# Altium footprint library PH.PcbLib: 64 footprints (part 3 of 4)
Each footprint in its own frame and in the unit in brackets; x right, y up, seen from the top. Pads: shape width x height; smd on the part's side, far side on the other; paste and mask are expansions set on the pad; w line width, h text height; cw(c..) or ccw(c..) is an arc to the next point about the centre after c.
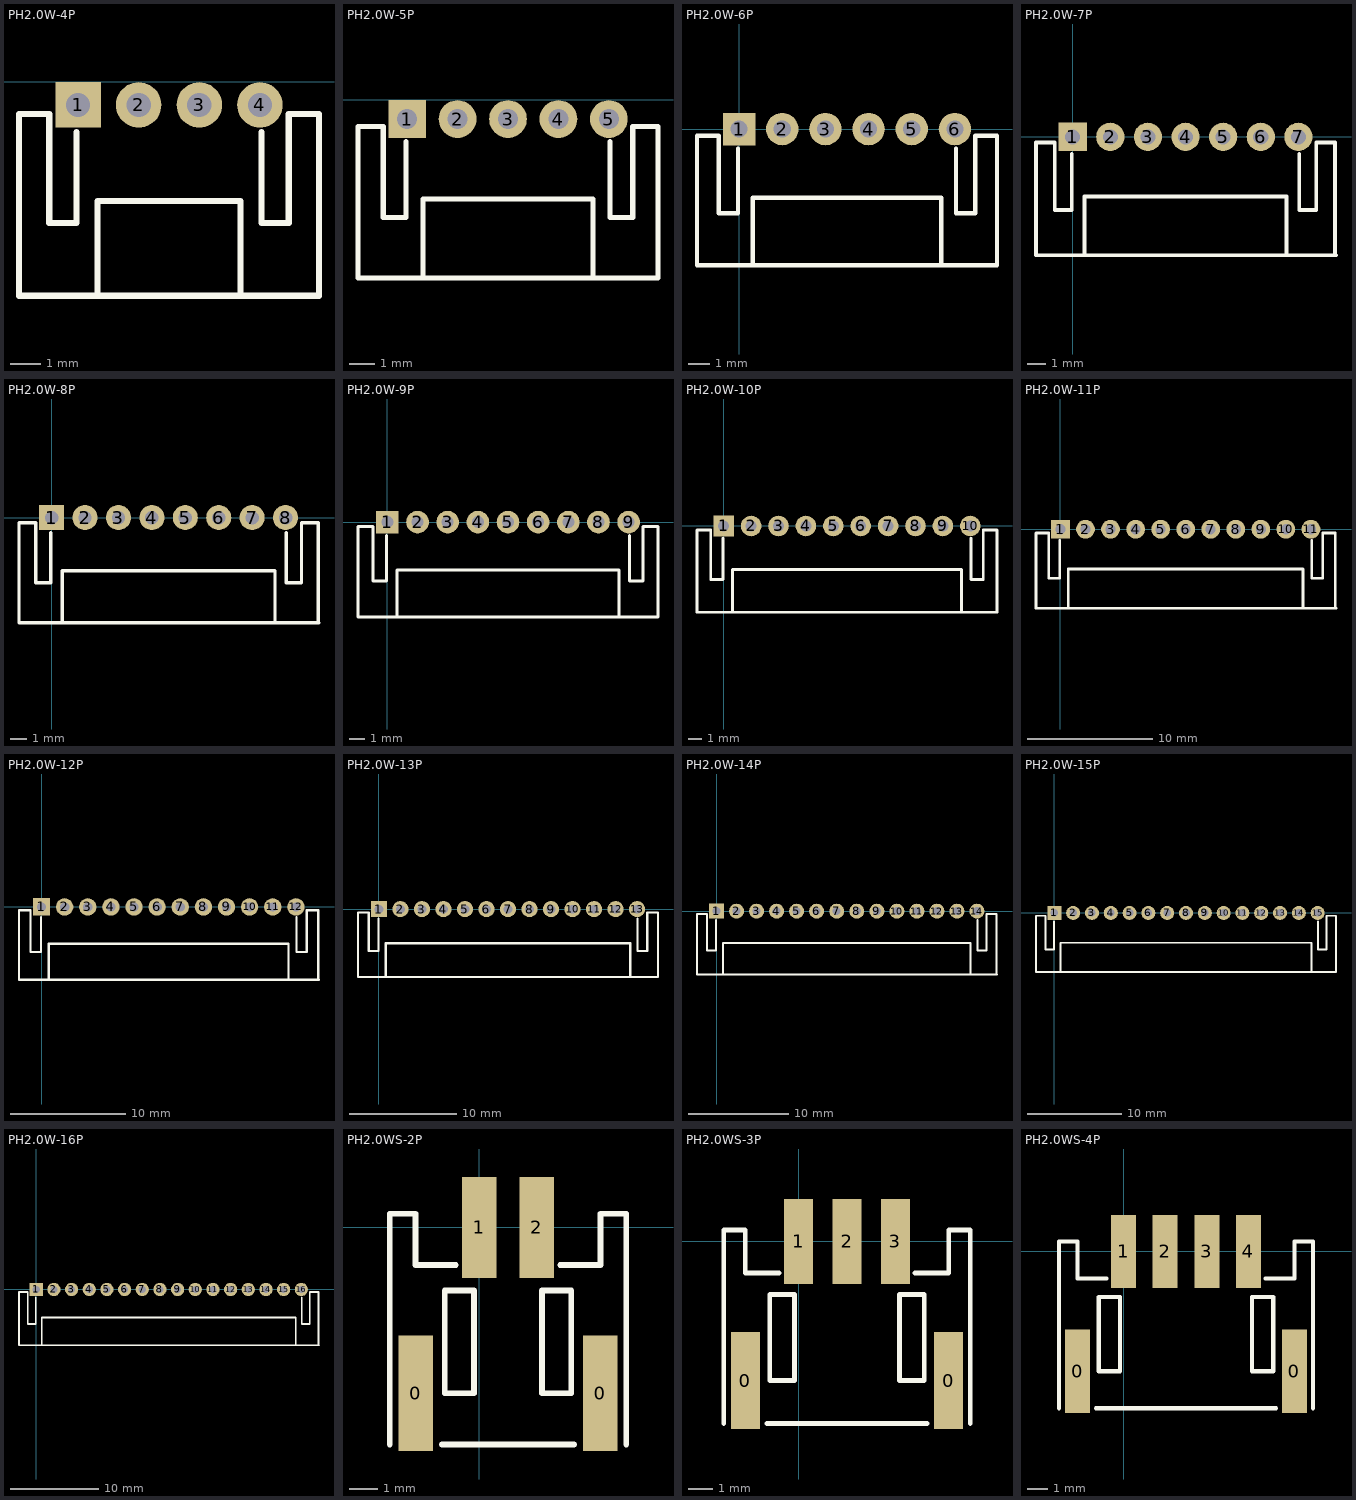
[diagram p2: the footprints below, top view; thin cyan lines are the x and y axes]

## PH2.0W-4P [mm]
pads (4):
  rect 1.5x1.5 hole 0.8: 1(4.239,-0.762)
  round 1.5 hole 0.8: 2(6.239,-0.762) 3(8.239,-0.762) 4(10.239,-0.762)
Top Overlay:
  lines w0.203: 4.189,-1.662 4.189,-4.662 3.289,-4.662 3.289,-4.062 3.289,-1.062 3.239,-1.062 2.289,-1.062 2.289,-7.062 12.189,-7.062 12.189,-1.062 11.239,-1.062 11.189,-1.062 11.189,-4.062 11.189,-4.662 10.289,-4.662 10.289,-1.662 ; 4.874,-6.977 4.874,-3.937 9.604,-3.937 9.604,-6.977

## PH2.0W-5P [mm]
pads (5):
  rect 1.5x1.5 hole 0.8: 1(4.382,-0.762)
  round 1.5 hole 0.8: 2(6.382,-0.762) 3(8.382,-0.762) 4(10.382,-0.762) 5(12.382,-0.762)
Top Overlay:
  lines w0.203: 4.332,-1.662 4.332,-4.662 3.432,-4.662 3.432,-4.062 3.432,-1.062 3.382,-1.062 2.432,-1.062 2.432,-7.062 14.332,-7.062 14.332,-1.062 13.382,-1.062 13.332,-1.062 13.332,-4.062 13.332,-4.662 12.432,-4.662 12.432,-1.662 ; 5.017,-6.977 5.017,-3.937 11.747,-3.937 11.747,-6.977

## PH2.0W-6P [mm]
pads (6):
  rect 1.5x1.5 hole 0.8: 1(0,0)
  round 1.5 hole 0.8: 2(2,0) 3(4,0) 4(6,0) 5(8,0) 6(10,0)
Top Overlay:
  lines w0.203: -0.05,-0.9 -0.05,-3.9 -0.95,-3.9 -0.95,-3.3 -0.95,-0.3 -1,-0.3 -1.95,-0.3 -1.95,-6.3 11.95,-6.3 11.95,-0.3 11,-0.3 10.95,-0.3 10.95,-3.3 10.95,-3.9 10.05,-3.9 10.05,-0.9 ; 0.635,-6.215 0.635,-3.175 9.365,-3.175 9.365,-6.215

## PH2.0W-7P [mm]
pads (7):
  rect 1.5x1.5 hole 0.8: 1(0,0)
  round 1.5 hole 0.8: 2(2,0) 3(4,0) 4(6,0) 5(8,0) 6(10,0) 7(12,0)
Top Overlay:
  lines w0.203: -0.05,-0.9 -0.05,-3.9 -0.95,-3.9 -0.95,-3.3 -0.95,-0.3 -1,-0.3 -1.95,-0.3 -1.95,-6.3 14,-6.3 ; 0.635,-6.215 0.635,-3.175 11.365,-3.175 11.365,-6.215 ; 12.05,-0.9 12.05,-3.9 12.95,-3.9 12.95,-3.3 12.95,-0.3 13,-0.3 13.95,-0.3 13.95,-6.3
Mechanical 15:
  lines w0.05: 5.5,0 6.5,0

## PH2.0W-8P [mm]
pads (8):
  rect 1.5x1.5 hole 0.8: 1(0,0)
  round 1.5 hole 0.8: 2(2,0) 3(4,0) 4(6,0) 5(8,0) 6(10,0) 7(12,0) 8(14,0)
Top Overlay:
  lines w0.203: -0.05,-0.9 -0.05,-3.9 -0.95,-3.9 -0.95,-3.3 -0.95,-0.3 -1,-0.3 -1.95,-0.3 -1.95,-6.3 16,-6.3 ; 0.635,-6.215 0.635,-3.175 13.365,-3.175 13.365,-6.215 ; 14.05,-0.9 14.05,-3.9 14.95,-3.9 14.95,-3.3 14.95,-0.3 15,-0.3 15.95,-0.3 15.95,-6.3

## PH2.0W-9P [mm]
pads (9):
  rect 1.5x1.5 hole 0.8: 1(0,0)
  round 1.5 hole 0.8: 2(2,0) 3(4,0) 4(6,0) 5(8,0) 6(10,0) 7(12,0) 8(14,0) 9(16,0)
Top Overlay:
  lines w0.203: -0.05,-0.9 -0.05,-3.9 -0.95,-3.9 -0.95,-3.3 -0.95,-0.3 -1,-0.3 -1.95,-0.3 -1.95,-6.3 17.95,-6.3 17.95,-0.3 17,-0.3 16.95,-0.3 16.95,-3.3 16.95,-3.9 16.05,-3.9 16.05,-0.9 ; 0.635,-6.215 0.635,-3.175 15.365,-3.175 15.365,-6.215
Mechanical 15:
  lines w0.05: 7.5,0 8.5,0

## PH2.0W-10P [mm]
pads (10):
  rect 1.5x1.5 hole 0.8: 1(0,0)
  round 1.5 hole 0.8: 2(2,0) 3(4,0) 4(6,0) 5(8,0) 6(10,0) 7(12,0) 8(14,0) 9(16,0) 10(18,0)
Top Overlay:
  lines w0.203: -0.05,-0.9 -0.05,-3.9 -0.95,-3.9 -0.95,-3.3 -0.95,-0.3 -1,-0.3 -1.95,-0.3 -1.95,-6.3 19.95,-6.3 19.95,-0.3 19,-0.3 18.95,-0.3 18.95,-3.3 18.95,-3.9 18.05,-3.9 18.05,-0.9 ; 0.635,-6.215 0.635,-3.175 17.365,-3.175 17.365,-6.215

## PH2.0W-11P [mm]
pads (11):
  rect 1.5x1.5 hole 0.8: 1(0,0)
  round 1.5 hole 0.8: 2(2,0) 3(4,0) 4(6,0) 5(8,0) 6(10,0) 7(12,0) 8(14,0) 9(16,0) 10(18,0) 11(20,0)
Top Overlay:
  lines w0.203: -0.05,-0.9 -0.05,-3.9 -0.95,-3.9 -0.95,-3.3 -0.95,-0.3 -1,-0.3 -1.95,-0.3 -1.95,-6.3 22,-6.3 ; 0.635,-6.215 0.635,-3.175 19.365,-3.175 19.365,-6.215 ; 20.05,-0.9 20.05,-3.9 20.95,-3.9 20.95,-3.3 20.95,-0.3 21,-0.3 21.95,-0.3 21.95,-6.3

## PH2.0W-12P [mm]
pads (12):
  rect 1.5x1.5 hole 0.8: 1(0,0)
  round 1.5 hole 0.8: 2(2,0) 3(4,0) 4(6,0) 5(8,0) 6(10,0) 7(12,0) 8(14,0) 9(16,0) 10(18,0) 11(20,0) 12(22,0)
Top Overlay:
  lines w0.203: -0.05,-0.9 -0.05,-3.9 -0.95,-3.9 -0.95,-3.3 -0.95,-0.3 -1,-0.3 -1.95,-0.3 -1.95,-6.3 24,-6.3 ; 0.635,-6.215 0.635,-3.175 21.365,-3.175 21.365,-6.215 ; 22.05,-0.9 22.05,-3.9 22.95,-3.9 22.95,-3.3 22.95,-0.3 23,-0.3 23.95,-0.3 23.95,-6.3

## PH2.0W-13P [mm]
pads (13):
  rect 1.5x1.5 hole 0.8: 1(0,0)
  round 1.5 hole 0.8: 2(2,0) 3(4,0) 4(6,0) 5(8,0) 6(10,0) 7(12,0) 8(14,0) 9(16,0) 10(18,0) 11(20,0) 12(22,0) 13(24,0)
Top Overlay:
  lines w0.203: -0.05,-0.9 -0.05,-3.9 -0.95,-3.9 -0.95,-3.3 -0.95,-0.3 -1,-0.3 -1.95,-0.3 -1.95,-6.3 25.95,-6.3 25.95,-0.3 25,-0.3 24.95,-0.3 24.95,-3.3 24.95,-3.9 24.05,-3.9 24.05,-0.9 ; 0.635,-6.215 0.635,-3.175 23.365,-3.175 23.365,-6.215

## PH2.0W-14P [mm]
pads (14):
  rect 1.5x1.5 hole 0.8: 1(0,0)
  round 1.5 hole 0.8: 2(2,0) 3(4,0) 4(6,0) 5(8,0) 6(10,0) 7(12,0) 8(14,0) 9(16,0) 10(18,0) 11(20,0) 12(22,0) 13(24,0) 14(26,0)
Top Overlay:
  lines w0.203: -0.05,-0.9 -0.05,-3.9 -0.95,-3.9 -0.95,-3.3 -0.95,-0.3 -1,-0.3 -1.95,-0.3 -1.95,-6.3 28,-6.3 ; 0.635,-6.215 0.635,-3.175 25.365,-3.175 25.365,-6.215 ; 26.05,-0.9 26.05,-3.9 26.95,-3.9 26.95,-3.3 26.95,-0.3 27,-0.3 27.95,-0.3 27.95,-6.3

## PH2.0W-15P [mm]
pads (15):
  rect 1.5x1.5 hole 0.8: 1(0,0)
  round 1.5 hole 0.8: 2(2,0) 3(4,0) 4(6,0) 5(8,0) 6(10,0) 7(12,0) 8(14,0) 9(16,0) 10(18,0) 11(20,0) 12(22,0) 13(24,0) 14(26,0) 15(28,0)
Top Overlay:
  lines w0.203: -0.05,-0.9 -0.05,-3.9 -0.95,-3.9 -0.95,-3.3 -0.95,-0.3 -1,-0.3 -1.95,-0.3 -1.95,-6.3 29.95,-6.3 29.95,-0.3 29,-0.3 28.95,-0.3 28.95,-3.3 28.95,-3.9 28.05,-3.9 28.05,-0.9 ; 0.635,-6.215 0.635,-3.175 27.365,-3.175 27.365,-6.215
Mechanical 15:
  lines w0.05: 13.5,0 14.5,0

## PH2.0W-16P [mm]
pads (16):
  rect 1.5x1.5 hole 0.8: 1(0,0)
  round 1.5 hole 0.8: 2(2,0) 3(4,0) 4(6,0) 5(8,0) 6(10,0) 7(12,0) 8(14,0) 9(16,0) 10(18,0) 11(20,0) 12(22,0) 13(24,0) 14(26,0) 15(28,0) 16(30,0)
Top Overlay:
  lines w0.203: -0.05,-0.9 -0.05,-3.9 -0.95,-3.9 -0.95,-3.3 -0.95,-0.3 -1,-0.3 -1.95,-0.3 -1.95,-6.3 32,-6.3 ; 0.635,-6.215 0.635,-3.175 29.365,-3.175 29.365,-6.215 ; 30.05,-0.9 30.05,-3.9 30.95,-3.9 30.95,-3.3 30.95,-0.3 31,-0.3 31.95,-0.3 31.95,-6.3

## PH2.0WS-2P [mm]
pads (4):
  rect 1.2x4 smd: 0(-2.2,-5.75) 0(4.2,-5.75)
  rect 1.2x3.5 smd: 1(0,0) 2(2,0)
Top Overlay:
  lines w0.2: -3.096,-7.522 -3.096,0.479 -2.207,0.479 -2.207,-1.299 -0.81,-1.299 ; -1.286,-7.522 3.286,-7.522 ; 2.81,-1.299 4.207,-1.299 4.207,0.479 5.096,0.479 5.096,-7.522 ; -1.191,-5.744 -0.175,-5.744 -0.175,-2.188 -1.191,-2.188 -1.191,-5.744 ; 2.175,-5.744 3.191,-5.744 3.191,-2.188 2.175,-2.188 2.175,-5.744

## PH2.0WS-3P [mm]
pads (5):
  rect 1.2x4 smd: 0(-2.2,-5.75) 0(6.2,-5.75)
  rect 1.2x3.5 smd: 1(0,0) 2(2,0) 3(4,0)
Top Overlay:
  lines w0.2: -3.096,-7.522 -3.096,0.479 -2.207,0.479 -2.207,-1.299 -0.81,-1.299 ; -1.302,-7.522 5.302,-7.522 ; 4.81,-1.299 6.207,-1.299 6.207,0.479 7.096,0.479 7.096,-7.522 ; -1.191,-5.744 -0.175,-5.744 -0.175,-2.188 -1.191,-2.188 -1.191,-5.744 ; 4.175,-5.744 5.191,-5.744 5.191,-2.188 4.175,-2.188 4.175,-5.744

## PH2.0WS-4P [mm]
pads (6):
  rect 1.2x4 smd: 0(-2.2,-5.75) 0(8.2,-5.75)
  rect 1.2x3.5 smd: 1(0,0) 2(2,0) 3(4,0) 4(6,0)
Top Overlay:
  lines w0.2: -3.096,-7.522 -3.096,0.479 -2.207,0.479 -2.207,-1.299 -0.81,-1.299 ; -1.318,-7.522 7.318,-7.522 ; 6.81,-1.299 8.207,-1.299 8.207,0.479 9.096,0.479 9.096,-7.522 ; -1.191,-5.744 -1.191,-2.188 -0.175,-2.188 -0.175,-5.744 -1.191,-5.744 ; 6.175,-5.744 6.175,-2.188 7.191,-2.188 7.191,-5.744 6.175,-5.744